# Altium schematic symbol library PMIC_Test.SchLib: 16 symbols
Pins are listed as number, name and electrical type; pins without a type are passive.

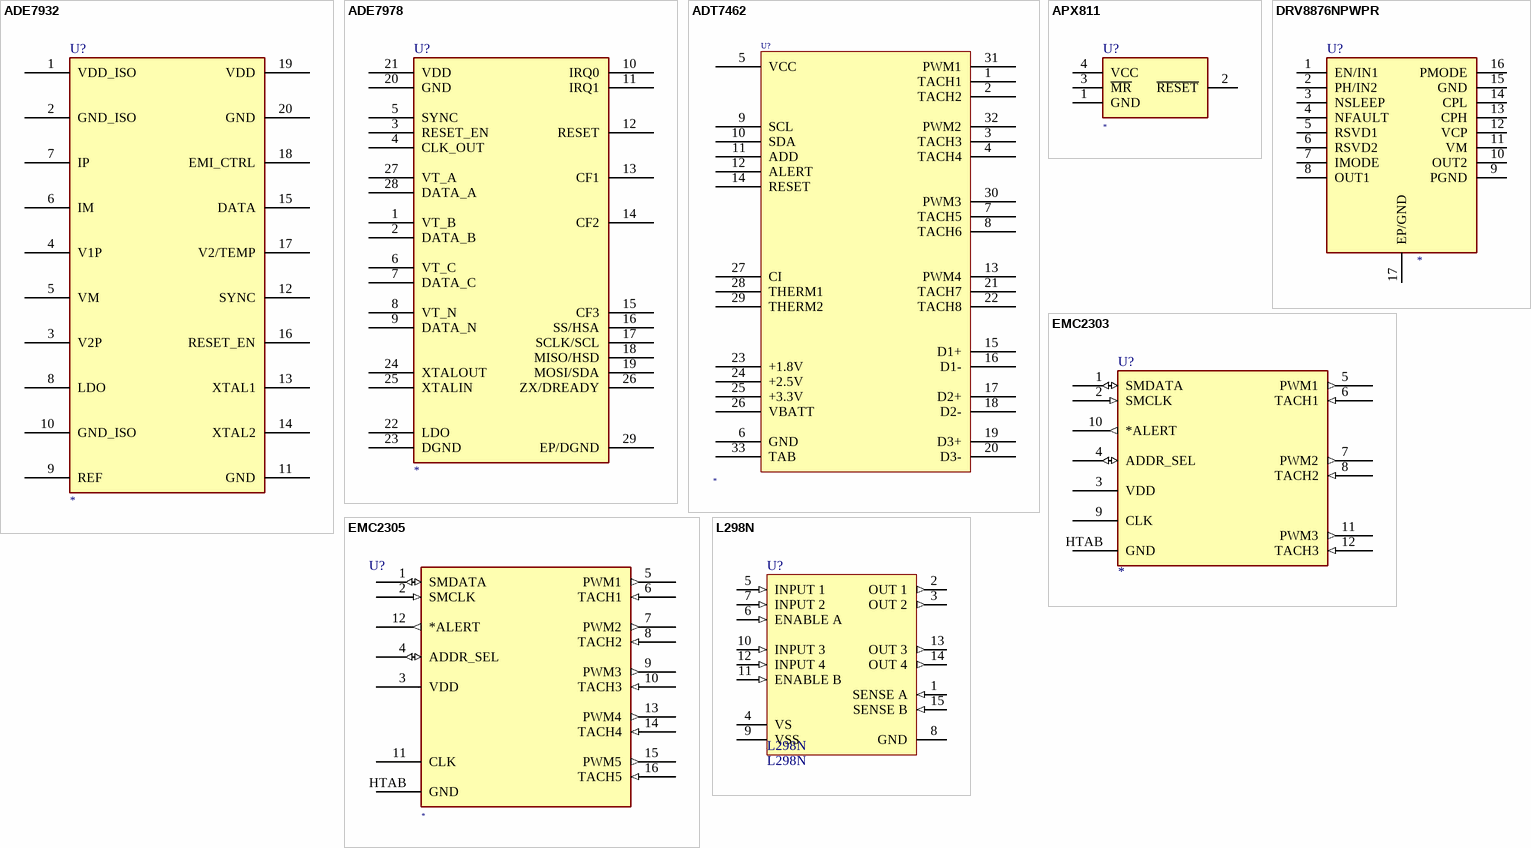
[diagram p0: symbols ADE7932 to L298N]

## ADE7932
designator U?
IC ADC/ENERGY MEAS 20SOIC; Manufacturer Part Number: *
pins: 1 VDD_ISO, 2 GND_ISO, 3 V2P, 4 V1P, 5 VM, 6 IM, 7 IP, 8 LDO, 9 REF, 10 GND_ISO, 11 GND, 12 SYNC, 13 XTAL1, 14 XTAL2, 15 DATA, 16 RESET_EN, 17 V2/TEMP, 18 EMI_CTRL, 19 VDD, 20 GND

## ADE7978
designator U?
IC ENERGY METERING 3PH 28LFCSP; Manufacturer Part Number: *
pins: 1 VT_B, 2 DATA_B, 3 RESET_EN, 4 CLK_OUT, 5 SYNC, 6 VT_C, 7 DATA_C, 8 VT_N, 9 DATA_N, 10 IRQ0, 11 IRQ1, 12 RESET, 13 CF1, 14 CF2, 15 CF3, 16 SS/HSA, 17 SCLK/SCL, 18 MISO/HSD, 19 MOSI/SDA, 20 GND, 21 VDD, 22 LDO, 23 DGND, 24 XTALOUT, 25 XTALIN, 26 ZX/DREADY, 27 VT_A, 28 DATA_A, 29 EP/DGND

## ADT7462
designator U?
32-VFQFN; Manufacturer Part Number: *
pins: 1 TACH1, 2 TACH2, 3 TACH3, 4 TACH4, 5 VCC, 6 GND, 7 TACH5, 8 TACH6, 9 SCL, 10 SDA, 11 ADD, 12 ALERT, 13 PWM4, 14 RESET, 15 D1+, 16 D1-, 17 D2+, 18 D2-, 19 D3+, 20 D3-, 21 TACH7, 22 TACH8, 23 +1.8V, 24 +2.5V, 25 +3.3V, 26 VBATT, 27 CI, 28 THERM1, 29 THERM2, 30 PWM3, 31 PWM1, 32 PWM2, 33 TAB

## APX811
designator U?
RESET SUPERVISOR; Manufacturer Part Number: *
pins: 1 GND, 2 ~{RESET}, 3 ~{MR}, 4 VCC

## DRV8876NPWPR
designator U?
H-Bridge Brushed DC Motor Driver 37-V, 3.5-A 16-HTSSOP; Manufacturer Part Number: *
pins: 1 EN/IN1, 2 PH/IN2, 3 NSLEEP, 4 NFAULT, 5 RSVD1, 6 RSVD2, 7 IMODE, 8 OUT1, 9 PGND, 10 OUT2, 11 VM, 12 VCP, 13 CPH, 14 CPL, 15 GND, 16 PMODE, 17 EP/GND

## EMC2303
designator U?
Fan Controller; Manufacturer Part Number: *
pins: 1 SMDATA (io), 2 SMCLK (in), 3 VDD (power), 4 ADDR_SEL (io), 5 PWM1 (out), 6 TACH1 (in), 7 PWM2 (out), 8 TACH2 (in), 9 CLK, 10 *ALERT (out), 11 PWM3 (out), 12 TACH3 (in), HTAB GND (power)

## EMC2305
designator U?
Fan Controller; Manufacturer Part Number: *
pins: 1 SMDATA (io), 2 SMCLK (in), 3 VDD (power), 4 ADDR_SEL (io), 5 PWM1 (out), 6 TACH1 (in), 7 PWM2 (out), 8 TACH2 (in), 9 PWM3 (out), 10 TACH3 (in), 11 CLK, 12 *ALERT (out), 13 PWM4 (out), 14 TACH4 (in), 15 PWM5 (out), 16 TACH5 (in), HTAB GND (power)

## L298N
designator U?
STMICROELECTRONICS   L298N.   MOTOR DRIVER; Min Supply Voltage: 4.8V; Max Supply Voltage: 46V; Motor Type: Brushed; Operating Supply Voltage: 42V; Number of Outputs: 4; Output Current: 2A; Max Output Current: 3A; Operating Supply Current: 13mA; Quiescent Current: 500mA; Number of Drivers: 2; Supplier 1: Digi-Key; Manufacturer 1: STMicroelectronics; RoHS: Yes; Category: Interface ICs; Stock 1: 314; Pricing 1: 1=4.86000, 10=4.36500, 25=4.12640, 100=3.39290, 250=3.04444, 500=2.93440, 1000=2.43922, 2500=2.34752 (USD); Mount: Through Hole; Number of Pins: 15; Min Operating Temperature: -25°C; Max Operating Temperature: 130°C; Packaging: Rail/Tube; Package Quantity: 25; Output Voltage: 46V; Collector Emitter Voltage (VCEO): 46V; Max Collector Current: 3A; Output Current per Channel: 2A; Length: 19.6mm; Height: 10.7mm; Width: 5mm; Radiation Hardening: No; Lead Free: Lead Free; REACH SVHC: No SVHC; ComponentLink1URL: https://datasheet.ciiva.com/19456/245403-19456698.pdf?src-supplier=Jameco; ComponentLink1Description: https://datasheet.ciiva.com/19456/245403-19456698.pdf?src-supplier=Jameco; ComponentLink2URL: https://datasheet.ciiva.com/14150/ofl298n-647108-dat-en-14150301.pdf?src-supplier=Distrelec; ComponentLink2Description: https://datasheet.ciiva.com/14150/ofl298n-647108-dat-en-14150301.pdf?src-supplier=Distrelec; ComponentLink3URL: https://datasheet.ciiva.com/15109/getdatasheetpartid-50682-15109332.pdf?src-supplier=Verical; ComponentLink3Description: https://datasheet.ciiva.com/15109/getdatasheetpartid-50682-15109332.pdf?src-supplier=Verical; ComponentLink4URL: https://datasheet.ciiva.com/25626/0900766b80060c26-25626619.pdf?src-supplier=RSComponents; ComponentLink4Description: https://datasheet.ciiva.com/25626/0900766b80060c26-25626619.pdf?src-supplier=RSComponents; ComponentLink5URL: https://datasheet.ciiva.com/29306/156128-da-01-en-dual-bridge-driv-l298n-29306997.pdf?src-supplier=Conrad; ComponentLink5Description: https://datasheet.ciiva.com/29306/156128-da-01-en-dual-bridge-driv-l298n-29306997.pdf?src-supplier=Conrad; ComponentLink6URL: https://datasheet.ciiva.com/26880/l298n-26880153.pdf?src-supplier=IIIC; ComponentLink6Description: https://datasheet.ciiva.com/26880/l298n-26880153.pdf?src-supplier=IIIC; ComponentLink7URL: https://datasheet.ciiva.com/1955/cd00000240-1955436.pdf?src-supplier=Digi-Key; ComponentLink7Description: https://datasheet.ciiva.com/1955/cd00000240-1955436.pdf?src-supplier=Digi-Key; ComponentLink8URL: https://datasheet.ciiva.com/1608/1693054-1608165.pdf?src-supplier=Newark; ComponentLink8Description: https://datasheet.ciiva.com/1608/1693054-1608165.pdf?src-supplier=Newark; ComponentLink9URL: https://datasheet.ciiva.com/1500/1693054-1500714.pdf?src-supplier=Element14; ComponentLink9Description: https://datasheet.ciiva.com/1500/1693054-1500714.pdf?src-supplier=Element14; ComponentLink10URL: https://datasheet.ciiva.com/1501/1693054-1501547.pdf?src-supplier=Element14; ComponentLink10Description: https://datasheet.ciiva.com/1501/1693054-1501547.pdf?src-supplier=Element14; ComponentLink11URL: https://datasheet.ciiva.com/4895/cd00000240-4895919.pdf?src-supplier=Mouser; ComponentLink11Description: https://datasheet.ciiva.com/4895/cd00000240-4895919.pdf?src-supplier=Mouser; Supplier Part Number 1: 497-1395-5-ND; Manufacturer Part Number 1: L298N
footprint L298N
pins: 1 SENSE A (in) "Between this pin and ground is connected the sense resistor to control the current of the load", 2 OUT 1 (out) "Outputs of the Bridge A; the current that flows through the load connected between these two pins is monitored at pin 1.", 3 OUT 2 (out) "Outputs of the Bridge A; the current that flows through the load connected between these two pins is monitored at pin 1.", 4 VS (power) "Supply Voltage for the Power Output Stages.A non-inductive 100nF capacitor must be connected between this pin and ground.", 5 INPUT 1 (in) "TTL Compatible Inputs of the Bridge A", 6 ENABLE A (in) "TTL Compatible Enable Input: the L state disables the bridge A (enable A) and/or the bridge B (enable B).", 7 INPUT 2 (in) "TTL Compatible Inputs of the Bridge A", 8 GND (power) "Ground", 9 VSS (power) "Supply Voltage for the Logic Blocks. A100nF capacitor must be connected between this pin and ground.", 10 INPUT 3 (in) "TTL Compatible Inputs of the Bridge B.", 11 ENABLE B (in) "TTL Compatible Enable Input: the L state disables the bridge A (enable A) and/or the bridge B (enable B).", 12 INPUT 4 (in) "TTL Compatible Inputs of the Bridge B.", 13 OUT 3 (out) "Outputs of the Bridge B. The current that flows through the load connected between these two pins is monitored at pin 15.", 14 OUT 4 (out) "Outputs of the Bridge B. The current that flows through the load connected between these two pins is monitored at pin 15.", 15 SENSE B (in) "Between this pin and ground is connected the sense resistor to control the current of the load"

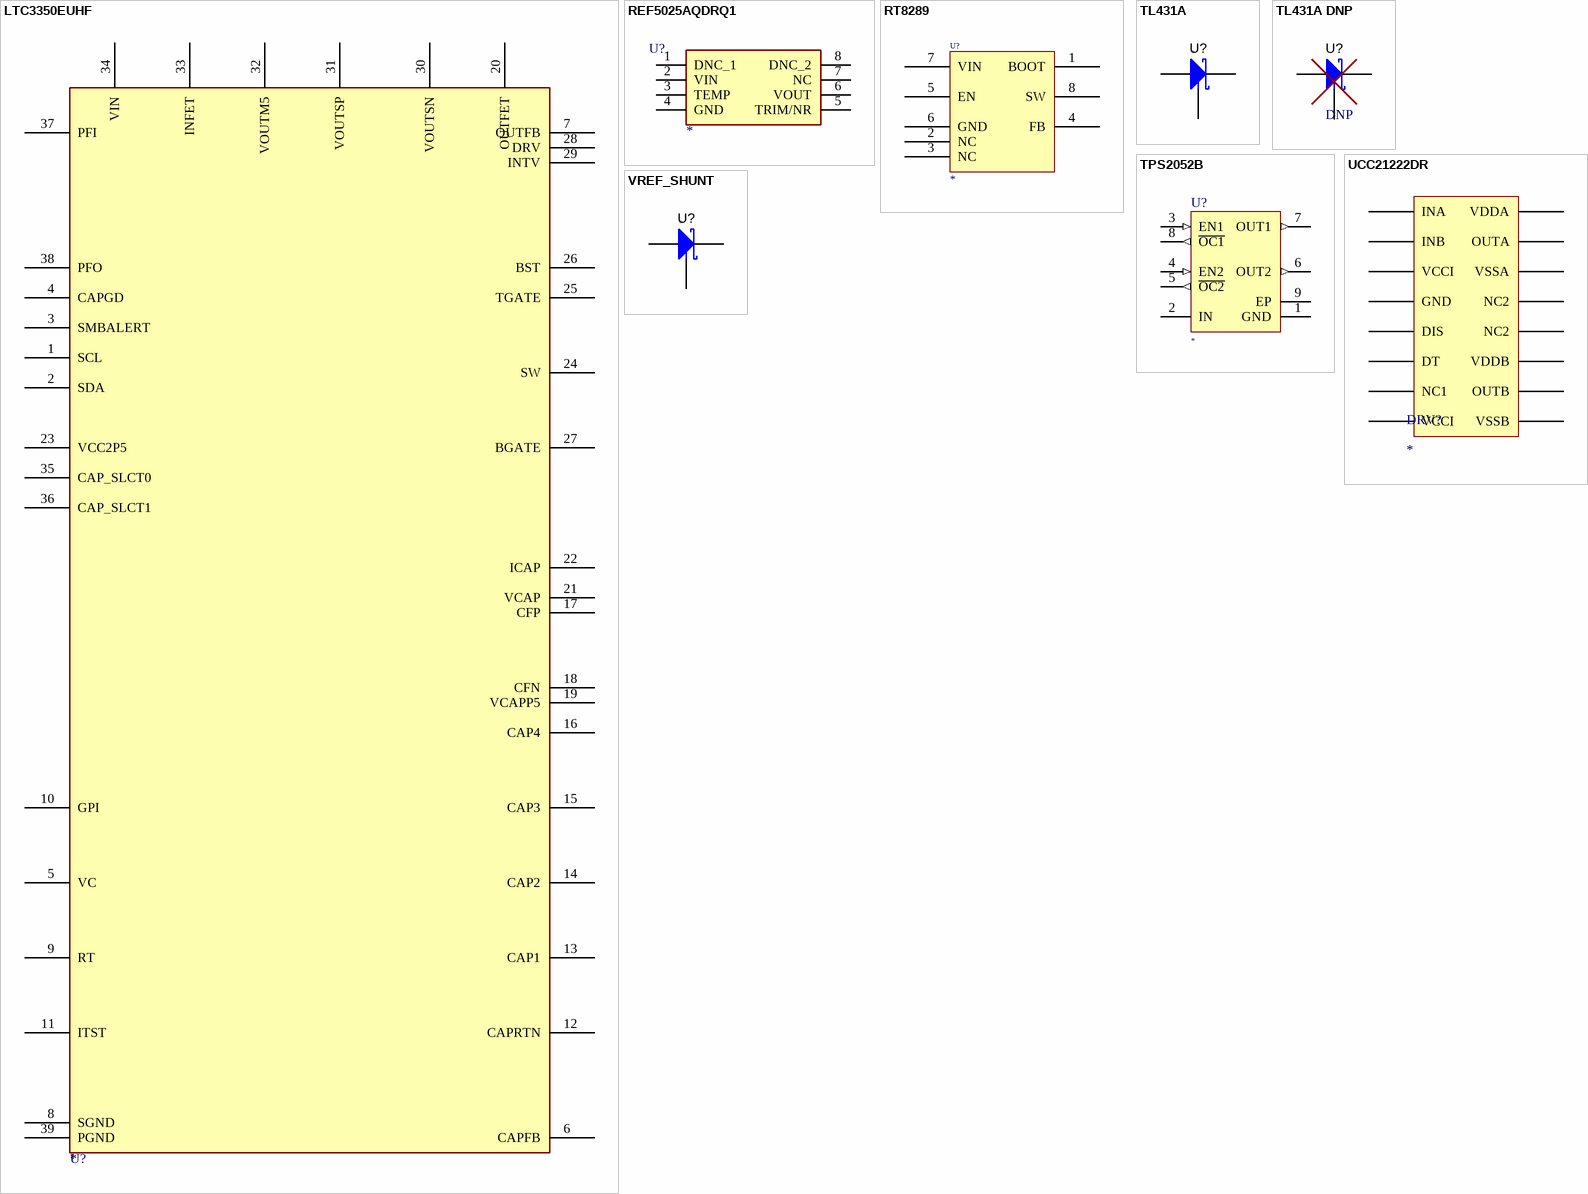
[diagram p1: symbols LTC3350EUHF to VREF_SHUNT]

## LTC3350EUHF
designator U?
BACKUP SUPERCAP CONTROLLER/CHARGER; Manufacturer Part Number: *
pins: 1 SCL, 2 SDA, 3 SMBALERT, 4 CAPGD, 5 VC, 6 CAPFB, 7 OUTFB, 8 SGND, 9 RT, 10 GPI, 11 ITST, 12 CAPRTN, 13 CAP1, 14 CAP2, 15 CAP3, 16 CAP4, 17 CFP, 18 CFN, 19 VCAPP5, 20 OUTFET, 21 VCAP, 22 ICAP, 23 VCC2P5, 24 SW, 25 TGATE, 26 BST, 27 BGATE, 28 DRV, 29 INTV, 30 VOUTSN, 31 VOUTSP, 32 VOUTM5, 33 INFET, 34 VIN, 35 CAP_SLCT0, 36 CAP_SLCT1, 37 PFI, 38 PFO, 39 PGND

## REF5025AQDRQ1
designator U?
IC VREF; Manufacturer Part Number: *
pins: 1 DNC_1, 2 VIN, 3 TEMP, 4 GND, 5 TRIM/NR, 6 VOUT, 7 NC, 8 DNC_2

## RT8289
designator U?, comment RT8289GSP  (value not drawn)
REG BUCK ADJUSTABLE 5A; Manufacturer Part Number: *
pins: 1 BOOT, 2 NC, 3 NC, 4 FB, 5 EN, 6 GND, 7 VIN, 8 SW

## TL431A
designator U?
VREF SHUNT 36V 1%; Manufacturer Part Number: *
pins: 1 REF, 2 K, 3 A

## TL431A DNP
designator U?, comment DNP
pins: 1 K, 2 REF, 3 A

## TPS2052B
designator U?
PWR SWITCH N-CHAN 1:2; Manufacturer Part Number: *
pins: 1 GND (power) "Ground", 2 IN "Input voltage", 3 EN1 (in) "Enable input, logic high turns on power switch IN-OUT1", 4 EN2 (in) "Enable input, logic high turns on power switch IN-OUT2", 5 ~{OC2} (out) "Overcurrent, open-drain output, active low, IN-OUT2", 6 OUT2 (out) "Power-switch output, IN-OUT2", 7 OUT1 (out) "Power-switch output, IN-OUT1", 8 ~{OC1} (out) "Overcurrent, open-drain output, active low, IN-OUT1", 9 EP (power) "Internally connected to GND; used to heat-sink the part to the circuit board traces. Should be connected to GND pin."

## UCC21222DR
designator DRV?
IC GATE DRVR HALF BRIDGE 16SOIC
pins: 1 INA, 2 INB, 3 VCCI, 4 GND, 5 DIS, 6 DT, 7 NC1, 8 VCCI, 9 VSSB, 10 OUTB, 11 VDDB, 12 NC2, 13 NC2, 14 VSSA, 15 OUTA, 16 VDDA

## VREF_SHUNT
designator U?
VREF SHUNT; Manufacturer Part Number: *
pins: 1 K, 2 A, 3 REF